# Altium schematic symbol library 12-6vdcdc.SchLib: 1 symbol
Pins are listed as number, name and electrical type; pins without a type are passive.

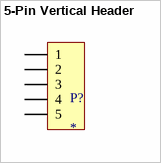
[diagram p0: symbol 5-Pin Vertical Header]

## 5-Pin Vertical Header
designator P?
Manufacturer: Sullins; Manufacturer No.: PPPC041LFBN-RC
footprint 5-Pin Vertical Header
pins: 1, 2, 3, 4, 5